# Altium schematic symbol library B-NT_V.SchLib: 26 symbols
Pins are listed as number, name and electrical type; pins without a type are passive.

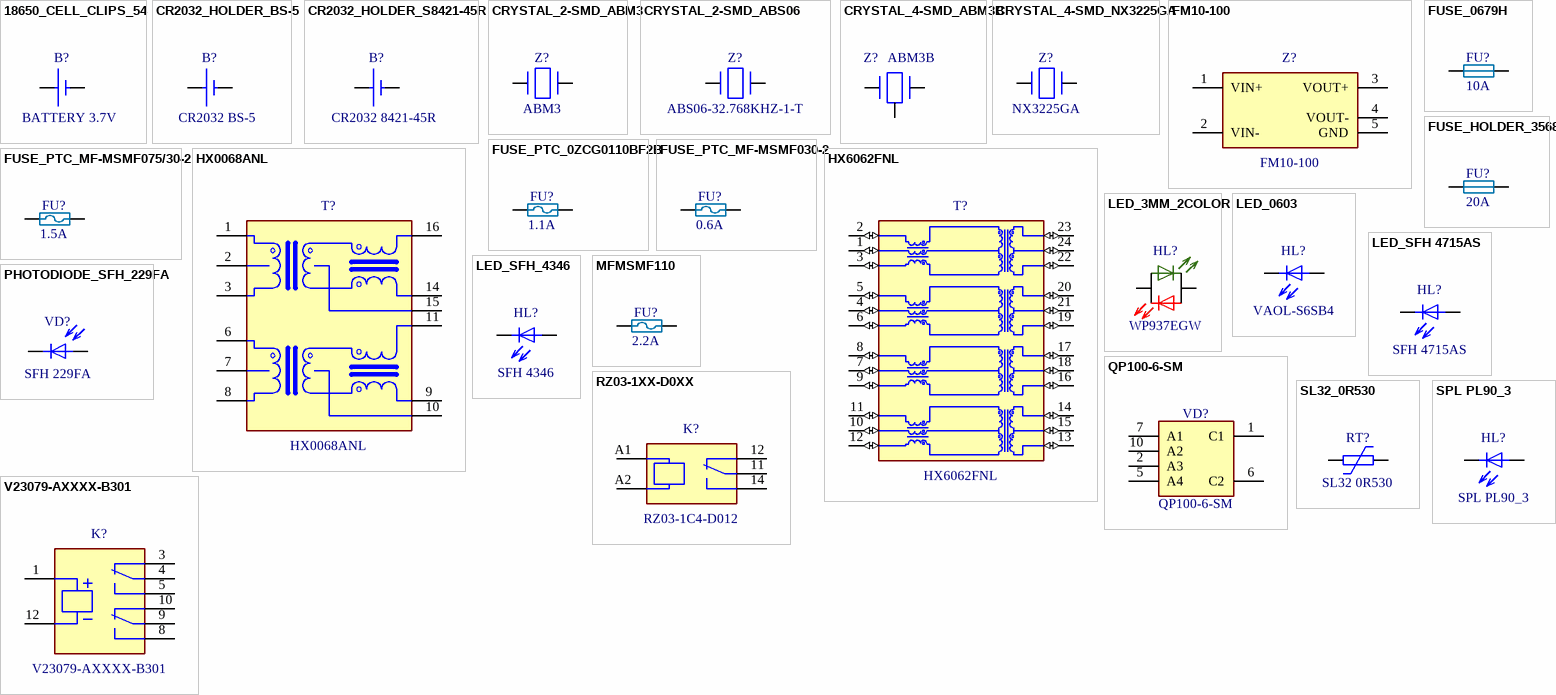
[diagram p0: symbols 18650_CELL_CLIPS_54 to V23079-AXXXX-B301]

## 18650_CELL_CLIPS_54
designator B?  value BATTERY 3.7V
18650 CELL BATTERY CLIPS 18MM; ValueManufacturer: Keystone Electronics; ValueManufacturerPartNumber: 54; PowerVoltage: 3.7V 900mAh; ValueDescription: 54 Держатели батареи 18650 3.7V 900mAh; Price: 1.34; ComponentLink1Description: Keystone Electronics Datasheet; ComponentLink1URL: http://www.keyelco.com/product-pdf.cfm?p=826; ValueType: BATTERY CLIPS; CheckDate: SC 24.10.17
footprint 54_BATTERY_18650
pins: 1, 2

## CR2032_HOLDER_BS-5
designator B?  value CR2032 BS-5
CR2032 VERT HOLDER BATTERY; ValueManufacturer: MPD; ValueManufacturerPartNumber: BS-5; PowerVoltage: 3.0V 0.4mAh; ValueDescription: BS-5 Держатель батареи CR2032 3.0V 0.4mAh; ValueType: BATTERY CLIPS; Price: 0.88; ComponentLink1Description: MPD Datasheet; ComponentLink1URL: http://www.memoryprotectiondevices.com/datasheets/BS-5-datasheet.pdf; Operating Temperature: -55°C~105°C; CheckDate: SC *
footprint BS-5_BATTERY_CR2032
pins: 1, 2

## CR2032_HOLDER_S8421-45R
designator B?  value CR2032 8421-45R
CR2032 HOLDER BATTERY; ValueManufacturer: Keystone Electronics; ValueManufacturerPartNumber: S8421-45R; PowerVoltage: 3.0V 0.4mAh; ValueDescription: S8421-45R Держатель батареи CR2032 3.0V 0.4mAh; ValueType: BATTERY CLIPS; Price: 1.17; ComponentLink1Description: Keystone Electronics Datasheet; ComponentLink1URL: http://www.keyelco.com/product-pdf.cfm?p=826; Operating Temperature: -40°C~105°C; CheckDate: SC 29.10.17
footprint S8421-45R_BATTERY_CR2032
pins: 1, 2

## CRYSTAL_2-SMD_ABM3
designator Z?  value ABM3
CRYSTAL 2-SMD ±20PPM 18PF 60Ohm; ValueManufacturer: Abracon LLC; ValueDescription: ABM3  Кварцевый генератор 2-SMD (5.00x3.20mm)  ±20ppm; Price: 0.35; ComponentLink1Description: Abracon LLC Datasheet; ComponentLink1URL: http://www.abracon.com/Resonators/abm3.pdf; Package: 2-SMD (5.00x3.20mm); Tolerance: ±20ppm; ValueManufacturerPartNumber: ABM3; ValueType: Crystal; Operating Temperature: -40°C ~ 85°C; CheckDate: SC 18.12.16
footprint Crystal_2-SMD_(5.0X3.2)
pins: 1, 2

## CRYSTAL_2-SMD_ABS06
designator Z?  value ABS06-32.768KHZ-1-T
CRYSTAL 2-SMD ±10PPM 12.5PF 90kOhm; ValueManufacturer: Abracon LLC; ValueManufacturerPartNumber: ABS06-32.768KHZ; ValueDescription: ABS06-32.768KHZ  Кварцевый генератор 2-SMD (2.00x1.20mm)  ±10ppm; Price: 0.80; ComponentLink1Description: Abracon LLC Datasheet; ComponentLink1URL: http://www.abracon.com/Resonators/ABS06.pdf; Package: 2-SMD (2.00x1.20mm); Tolerance: ±10ppm; ValueType: Crystal; Operating Temperature: -40°C ~ 85°C; CheckDate: SC 13.11.17
footprint Crystal_2-SMD_(2.0X1.2) (Crystal (2.00mm x 1.20mm))
pins: 1, 2

## CRYSTAL_4-SMD_ABM3B
designator Z?  value ABM3B
CRYSTAL 4-SMD ±20PPM 18PF 60Ohm; ValueManufacturer: Abracon LLC; ValueDescription: ABM3B  Кварцевый генератор 4-SMD (5.00x3.20mm)  ±20ppm; Price: 0.69; ComponentLink1Description: Abracon LLC Datasheet; ComponentLink1URL: http://www.abracon.com/Resonators/abm3b.pdf; Package: 4-SMD (5.00x3.20mm); Tolerance: ±20ppm; ValueManufacturerPartNumber: ABM3B; ValueType: Crystal; Operating Temperature: -40°C ~ 85°C; CheckDate: SC 13.11.16
footprint Crystal_4-SMD_(5.0X3.2) (Crystal (5.00mm x 3.20mm))
pins: 1, 2, 3

## CRYSTAL_4-SMD_NX3225GA
designator Z?  value NX3225GA
CRYSTAL 4-SMD ±20PPM 8PF 50Ohm; ValueManufacturer: NDK America; ValueDescription: NX3225GA  Кварцевый генератор 4-SMD (3.20x2.50mm)  ±20ppm; Price: 0.35; ComponentLink1Description: NDK America Datasheet; ComponentLink1URL: http://www.ndk.com/images/products/catalog/c_NX3225GA-STD-CRG-2_e.pdf; Package: 4-SMD (3.20x2.50mm); Tolerance: ±20ppm; ValueManufacturerPartNumber: NX3225GA; ValueType: Crystal; Operating Temperature: -40°C ~ 85°C; CheckDate: SC 13.11.17
footprint Crystal_4-SMD_(3.2X2.5) (Crystal (3.20mm x 2.50mm))
pins: 1, 3

## FM10-100
designator Z?  value FM10-100
75VDC, 10A Filter Module PCB; ValueManufacturer: Cincon; PowerVoltage: 10A 75V; ValueDescription: FM10-100 Фильтр питания 50.8x25.4x11.7 mm  10A 75V; ValueType: EMI Filter; Price: 31.04; ComponentLink1Description: Mouser Datasheet; ComponentLink1URL: http://www.mouser.com/ds/2/75/FM-100%20V11-971033.pdf; Package: 50.8x25.4x11.7 mm; ValueManufacturerPartNumber: FM10-100; Operating Temperature: -40°C~100°C; CheckDate: SC *
footprint FM10-100
pins: 1 VIN+ (power) "POWER IN", 2 VIN- (power) "POWER IN", 3 VOUT+ (power) "contact", 4 VOUT- (power) "contact", 5 GND (power) "contact"

## FUSE_0679H
designator FU?  value 10A
FUSE BOARD MNT 10A 350VAC 60VDC; ValueManufacturer: Bel Fuse Inc.; ValueManufacturerPartNumber: 0679H9100-05; Tolerance: 0.0066Ohm; ValueDescription: 0679H9100-05 Предохранитель 10A  350VAC 60VDC  16x6.73x7.37mm; Price: 0.34; ComponentLink1Description: Bel Fuse Datasheet; ComponentLink1URL: http://belfuse.com/pdfs/0679H.pdf; Package: 16x6.73x7.37mm; PowerVoltage: 350VAC 60VDC; ValueType: Fuse; Operating Temperature: -55°C~125°C; CheckDate: SC 15.01.17
footprint FUSE_0679H (Fuse 0679H9100-05)
pins: 1, 2
1 alternate drawing of the same symbol

## FUSE_HOLDER_3568
designator FU?  value 20A
Fuse Holder 20A 500V; ValueManufacturer: Keystone Electronics; ValueManufacturerPartNumber: 3568; ValueDescription: 3568 Держатель предохранителя 20A 500V  16x6.73x7.37mm; Price: 0.98; ComponentLink1Description: Keystone Electronics Datasheet; ComponentLink1URL: http://keyelco.com/userAssets/file/M65p42.pdf; Package: 16x6.73x7.37mm; PowerVoltage: 20A 500V; ValueType: Fuse; Operating Temperature: -50°C~145°C; CheckDate: SC 15.01.17
footprint FUSE_3568 (Fuse 3568 (16x6.73x7.37))
pins: 1, 2
1 alternate drawing of the same symbol

## FUSE_PTC_0ZCG0110BF2B
designator FU?  value 1.1A
PTC RESTTBLE 1812 1.10A 24V; ValueManufacturer: Bel Fuse Inc.; ValueManufacturerPartNumber: 0ZCG0110BF2B; PowerVoltage: 24В 1.1A; TechSpec: 0.5c; Tolerance: 0.060~0.200мОм; ValueDescription: 0ZCG0110BF2B Самовосстанавливающийся предохранитель 1.1A  1812 (4532)  24В 1.1A  0.5c; ValueType: Polyswitch; Price: 0.19; ComponentLink1Description: Bel Fuse Datasheet; ComponentLink1URL: http://www.belfuse.com/pdfs/0ZCG.pdf; Package: 1812 (4532); Operating Temperature: -40°C~85°C; CheckDate: SC 15.01.17
footprint PTC1812
pins: 1, 2
1 alternate drawing of the same symbol

## FUSE_PTC_MF-MSMF030-2
designator FU?  value 0.6A
PTC RESET FUSE 30V 300MA; ValueManufacturer: Bourns Inc.; ValueManufacturerPartNumber: MF-MSMF030-2; PowerVoltage: 30В 0.6A; TechSpec: 0.1c; Tolerance: 0.300~3.000Ом; ValueDescription: MF-MSMF030-2 Самовосстанавливающийся предохранитель 0.6A  1812 (4532)  30В 0.6A  0.1c; Price: 0.39; ComponentLink1Description: Bourns Datasheet; ComponentLink1URL: http://www.bourns.com/docs/Product-Datasheets/mfmsmf.pdf; Package: 1812 (4532); ValueType: Fuse; Operating Temperature: -40°C~85°C; CheckDate: SC *
footprint PTC1812
pins: 1, 2
1 alternate drawing of the same symbol

## FUSE_PTC_MF-MSMF075/30-2
designator FU?  value 1.5A
PTC RESET FUSE 30V 750MA; ValueManufacturer: Bourns Inc.; ValueManufacturerPartNumber: MF-MSMF075/30-2; PowerVoltage: 30В 1.5A; TechSpec: 0.2c; Tolerance: 110~450мОм; ValueDescription: MF-MSMF075/30-2 Самовосстанавливающийся предохранитель 1.5A  1812 (4532)  30В 1.5A  0.2c; Price: 0.92; ComponentLink1Description: Bourns Datasheet; ComponentLink1URL: http://www.bourns.com/docs/Product-Datasheets/mfmsmf.pdf; Package: 1812 (4532); ValueType: Fuse; Operating Temperature: -40°C~85°C; CheckDate: SC *
footprint PTC1812
pins: 1, 2
1 alternate drawing of the same symbol

## HX0068ANL
designator T?  value HX0068ANL
LAN 10/100 Base-T PULSE XFMR 1CT:1CT; ValueManufacturer: Pulse Electronics Network; PowerVoltage: 350мкГн; TechSpec: Высота 2.08mm; ValueDescription: HX0068ANL Трансформатор LAN 10/100 12.70x8.81mm  350мкГн    Высота 2.08mm; Price: 7.21; ComponentLink1Description: Pulse Electronics Datasheet; ComponentLink1URL: http://productfinder.pulseeng.com/products/datasheets/HX0068ANL.pdf; Package: 12.70x8.81mm; ValueManufacturerPartNumber: HX0068ANL; ValueType: LAN 10/100 Base-T; Operating Temperature: -40°C~85°C; CheckDate: SC 06.11.17
footprint HX0068ANL (LAN 10/100 BASE-TRANS)
pins: 1, 2, 3, 6, 7, 8, 9, 10, 11, 14, 15, 16

## HX6062FNL
designator T?  value HX6062FNL
LAN 10/100/1000 Base-T PULSE XFMR 1CT:1CT TX/RX; ValueManufacturer: Pulse Electronics Network; PowerVoltage: 350мкГн; TechSpec: Высота 5.72mm; ValueDescription: HX6062FNL Трансформатор LAN 10/100/1000 17.50x15.24mm  350мкГн    Высота 5.72mm; Price: 6.4; ComponentLink1Description: Pulse Electronics Datasheet; ComponentLink1URL: https://productfinder.pulseeng.com/products/datasheets/HX6062FNL.pdf; Package: 17.50x15.24mm; ValueManufacturerPartNumber: HX6062FNL; ValueType: LAN 10/100/1000 Base-T; Operating Temperature: -40°C~85°C; CheckDate: SC *
footprint HX6062FNL (LAN 10/100/1000 BASE-TRANS)
pins: 1 TCT1 (io), 2 TD1+ (io), 3 TD1- (io), 4 TCT2 (io), 5 TD2+ (io), 6 TD2- (io), 7 TCT3 (io), 8 TD3+ (io), 9 TD3- (io), 10 TCT4 (io), 11 TD4+ (io), 12 TD4- (io), 13 MX4- (io), 14 MX4+ (io), 15 MCT4 (io), 16 MX3- (io), 17 MX3+ (io), 18 MCT3 (io), 19 MX2- (io), 20 MX2+ (io), 21 MCT2 (io), 22 MX1- (io), 23 MX1+ (io), 24 MCT1 (io)

## LED_3MM_2COLOR
designator HL?  value WP937EGW
LED GRN/RED DIFF 3MM ROUND; ValueManufacturer: Kingbright; PowerVoltage: 2.2V / 2V; TechSpec: Зеленый/Красный; ValueDescription: WP937EGW Свтетодиод Radial 3mm  2.2V / 2V  Зеленый/Красный; ValueType: Radial 3mm Led Diode; Price: 0.53; ComponentLink1Description: Kingbright Datasheet; ComponentLink1URL: http://www.kingbrightusa.com/images/catalog/SPEC/WP937EGW.pdf; Package: Radial 3mm; ValueManufacturerPartNumber: WP937EGW; Operating Temperature: -40°C~85°C; CheckDate: SC 12.11.17
footprint LED_3MM_ROUND
pins: 1, 2
1 alternate drawing of the same symbol

## LED_0603
designator HL?  value VAOL-S6SB4
LED BLUE 0603 SMD  2.75V 0603 (1608); ValueManufacturer: Visual Communications Company; TechSpec: Синий; ValueDescription: VAOL-S6SB4 Свтетодиод 0603 (1608)  2.75V  Синий; ValueType: SMD Led Diode; Price: 0.5; ComponentLink1Description: Visual Communications Company; ComponentLink1URL: http://static.vcclite.com/pdf/VAOL-S6SB4-LED-0603-blue.pdf; Package: 0603 (1608); PowerVoltage: 2.75V; ValueManufacturerPartNumber: VAOL-S6SB4; Operating Temperature: -40°C~85°C; CheckDate: SC 03.03.17
footprint LED0603
pins: 1, 2
1 alternate drawing of the same symbol

## LED_SFH 4715AS
designator HL?  value SFH 4715AS
EMITTER IR LED 860NM 3SMD; ValueManufacturer: OSRAM Opto Semiconductors; TechSpec: Инфрокрасный; ValueDescription: SFH 4715AS Свтетодиод 3.85x3.85    Инфрокрасный; ValueType: SMD Led Diode; Price: 4.96; ComponentLink1Description: OSRAM Opto Semiconductors Datasheet; ComponentLink1URL: http://www.osram-os.com/Graphics/XPic3/00204179_0.pdf; Package: 3.85x3.85; ValueManufacturerPartNumber: SFH 4715AS; Operating Temperature: -40°C~125°C; CheckDate: SC *
footprint HL_SFH 4715AS
pins: 1, 2
1 alternate drawing of the same symbol

## LED_SFH_4346
designator HL?  value SFH 4346
EMITTER IR LED 950NM 100MA RADIAL; ValueManufacturer: OSRAM Opto Semiconductors; TechSpec: Инфракрасный; ValueDescription: SFH 4346 Свтетодиод 3.78x3.82    Инфракрасный; ValueType: Through Hole IR Emitter; Price: 0.17315; ComponentLink1Description: OSRAM Opto Semiconductors Datasheet; ComponentLink1URL: https://dammedia.osram.info/media/resource/hires/osram-dam-2496280/SFH%204346.pdf; Package: 3.78x3.82; ValueManufacturerPartNumber: SFH 4346; Operating Temperature: -40°C ~ 100°C; CheckDate: SC *
footprint SFH_4346
pins: 1, 2
1 alternate drawing of the same symbol

## MFMSMF110
designator FU?  value 2.2А
PTC RESETTABLE 1.10A 16V 1812; ValueManufacturer: Bourns Inc.; ValueManufacturerPartNumber: MFMSMF110; PowerVoltage: 16В 2.2A; TechSpec: 0.3c; Tolerance: 40мОм...210мОм; ValueDescription: MFMSMF110 Самовосстанавливающийся предохранитель 2.2А  1812 (4532)  16В 2.2A  0.3c; ValueType: Polyswitch; Price: 0.5; ComponentLink1Description: Bourns Datasheet; ComponentLink1URL: http://www.bourns.com/docs/Product-Datasheets/mfmsmf.pdf; Package: 1812 (4532); Operating Temperature: -40°C~85°C; CheckDate: SC *
footprint PTC1812
pins: 1, 2
1 alternate drawing of the same symbol

## PHOTODIODE_SFH_229FA
designator VD?  value SFH 229FA
PHOTODIODE 900NM 3MM W/FILTER; ValueManufacturer: OSRAM Opto Semiconductors; TechSpec: Инфракрасный; Tolerance: 900nm 34°; ValueDescription: SFH 229FA Фотодиод  3.78x3.82    Инфракрасный; ValueType: Through Hole IR Photodiode; Price: 0.94000; ComponentLink1Description: OSRAM Opto Semiconductors Datasheet; ComponentLink1URL: https://dammedia.osram.info/media/resource/hires/osram-dam-2496037/SFH%20229%20FA.pdf; Package: 3.78x3.82; ValueManufacturerPartNumber: SFH 229FA; Operating Temperature: -40°C ~ 100°C; CheckDate: SC *
footprint SFH_229FA
pins: 1, 2
1 alternate drawing of the same symbol

## QP100-6-SM
designator VD?  value QP100-6-SM
Quadrant Photodiodes 11.2mm Dia Area with 42um Gaps; ValueManufacturer: First Sensor; PowerVoltage: 5nA 50V; ValueDescription: QP100-6-SM Фотодиод 14.5x16.5x2 mm, SMD-10, LCC10G  5nA 50V; ValueType: Quad Photodiodes; Price: 156.44; ComponentLink1Description: First sensor Datasheet; ComponentLink1URL: https://www.first-sensor.com/cms/upload/datasheets/QP100-6_SMD_501276.pdf; Package: 14.5x16.5x2 mm, SMD-10, LCC10G; ValueManufacturerPartNumber: QP100-6-SM; Operating Temperature: -20°C~70°C; CheckDate: SC *
footprint LCC10G (SMD-10,  Body 14,5x16,5mm)
pins: 1 С1, 2 A3, 5 A4, 6 С2, 7 A1, 10 A2

## RZ03-1XX-D0XX
designator K?  value RZ03-1C4-D012
Relay SPDT 16A 250VAC; ValueManufacturer: Tyco Electronics; ValueManufacturerPartNumber: RZ03-1XX-D0XX; ValueDescription: RZ03-1C4-D012 Реле Tyco Electronics  16A 250VAC; Price: 2.76; ComponentLink1Description: Tyco Electronics Datasheet; ComponentLink1URL: http://www.te.com/commerce/DocumentDelivery/DDEController?Action=srchrtrv&DocNm=RZ&DocType=DS&DocLang=English; Package: SPDT; PowerVoltage: 16A 250VAC; ValueType: Relay; Operating Temperature: -40°C~85°C; CheckDate: SC 25.12.16
footprint RZ03-1XX-D0XX (RZ03 Relay Module (29.0mm x 12.7mm x 15.7mm))
pins: 11 "contact", 12 "contact", 14 "contact", A1 "Coil", A2 "Coil"

## SL32_0R530
designator RT?  value SL32 0R530
Current Limiter 0.5 Ohm Ohm ±20% 30A (30mm); ValueManufacturer: Ametherm; PowerVoltage: 0.5Ohm 30A; ValueDescription: SL32 0R530 Токовый термистор 7.80mm d30mm  0.5Ohm 30A  ±20%; ValueType: Inrush Current Limiters; Price: 2.49; ComponentLink1Description: Ametherm Datasheet; ComponentLink1URL: https://industrial.panasonic.com/cdbs/www-data/pdf/RDA0000/AOA0000C86.pdf; Package: 7.80mm d30mm; Tolerance: ±20%; ValueManufacturerPartNumber: SL32 0R530; Operating Temperature: 214°C; CheckDate: SC 26.03.17
footprint SL32_0R530 (SL32 0R530 30х69х5mm)
pins: 1, 2
1 alternate drawing of the same symbol

## SPL PL90_3
designator HL?  value SPL PL90_3
Laser Diodes NANOSTACK 75 W 905 nm; ValueManufacturer: OSRAM Opto Semiconductors; PowerVoltage: 9V; TechSpec: Инфракрасный; ValueDescription: SPL PL90_3 Лазерный диод T-1 3/4  9V  Инфракрасный; Price: 18,56 €; ComponentLink1Description: OSRAM Opto Semiconductors Datasheet; ComponentLink1URL: https://dammedia.osram.info/media/resource/hires/osram-dam-2496280/SFH%204346.pdf; Package: T-1 3/4; ValueManufacturerPartNumber: SPL PL90_3; ValueType: Laser Diodes; Operating Temperature: -40°C ~ 85°C; CheckDate: SC *
footprint SPL PL90_3 (Pulsed Laser Diode in Plastic Package)
pins: 1 C, 2 A

## V23079-AXXXX-B301
designator K?  value V23079-AXXXX-B301
Relay DPDT 2A 250VAC; ValueManufacturer: TE Connectivity; ValueDescription: V23079-AXXXX-B301 Реле TE Connectivity  2A 250VAC; Price: 3.1; ComponentLink1Description: TE Connectivity Datasheet; ComponentLink1URL: http://www.alliedelec.com/m/d/9f2d634857b83037a61813fa3828e6ae.pdf; Package: DPDT; PowerVoltage: 2A 250VAC; ValueManufacturerPartNumber: V23079-AXXXX-B301; ValueType: Relay; Operating Temperature: -40°C~85°C; CheckDate: SC 25.12.16
footprint V23079-AXXXX-B301 (V23079 Relay Module (15mm x 7.5mm x 9.5mm))
pins: 1 + "Coil", 3 "contact", 4 "contact", 5 "contact", 8 "contact", 9 "contact", 10 "contact", 12 - "Coil"